# Altium schematic symbol library RCE5C1H104J2A2H03B.SchLib: 1 symbol
Pins are listed as number, name and electrical type; pins without a type are passive.

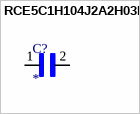
[diagram p0: symbol RCE5C1H104J2A2H03B]

## RCE5C1H104J2A2H03B
designator C?
Multilayer Ceramic Capacitors MLCC - Leaded; MP: RCE5C1H104J2A2H03B; Package: None; Price: None; Value: *; Availability: Unavailable
footprint CAP_RCE5C1H104J2A2H03B
pins: 1, 2